# EAGLE library part 643250100408 (library WR-CIRC)
WR-CIRCM12 Screw Mating Panel Connector PCB Metal M16 Characteristics Several panel cuts available IP68 rated connectors Can work in harsh environments Applications Automation industry & control systems Sensors' connectivity Building automation Renewable energies General Information Durability 100 Mating cycles Operating Temperature -40 °C up to +90 °C Gender Male Electrical Properties IR 2 A; 5 A Working Voltage 30 V; 60 V; 250 V Withstanding Voltage 650 V; 1000 V; 1400 V RISO 100 MΩ Material Properties Insulator Material PA66 Insulator Flammability Rating UL94 V-0 Insulator Color Black Contact Material Copper Alloy Contact Plating Gold <https://www.we-online.com/components/media/o850116v209%20Multi-WR-CIRCM12-643250100404.jpg> Details see: www.we-online.com/components/products/WR-CIRCM12_PANEL_CONNECTOR_PCB_METAL_M16 <www.we-online.com/catalog/WR-CIRCM12_PANEL_CONNECTOR_PCB_METAL_M16/?utm_source=eagle_model&utm_medium=description_link&utm_campaign=eisos_eagle> Created by Ella Wu 2025-06-10 2025 (C) Würth Elektronik
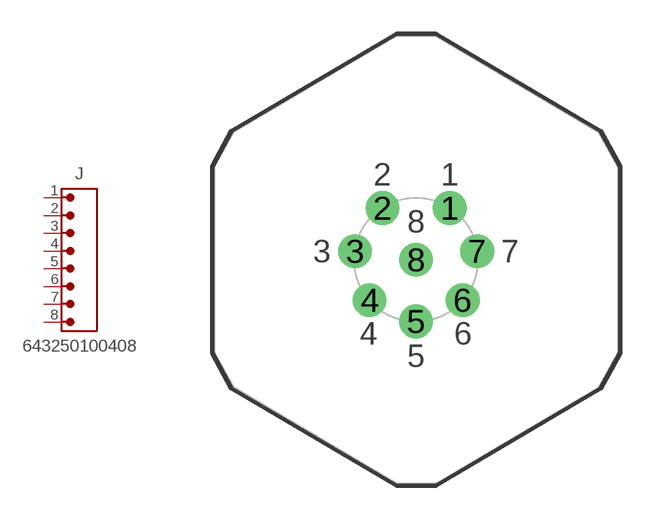
[diagram p14: symbol with the pads of 643250100408; footprint 643250100408]

Designator prefix J

## 643250100408 (DATASHEET-URL: https://www.we-online.com/redexpert/spec/643250100408?ae; GENDER: Male; MOUNT: THT; PART-NUMBER: 643250100408; POLARITY: 8; RATED-CURRENT: 2A; VALUE: 643250100408; WITHSTANDING-VOLTAGE: 650V; WORKING-VOLTAGE: 30V)  [643250100408]
1  1  pas
2  2  pas
3  3  pas
4  4  pas
5  5  pas
6  6  pas
7  7  pas
8  8  pas

## Footprint 643250100408 (pad centres in mm)
WR-CIRCM12 Screw Mating Panel Connector PCB Metal M16 THT, 8pins
drill 1: 1 1.498,2.306; 2 -1.498,2.306; 3 -2.723,0.383; 4 -2.075,-1.804; 5 0,-2.75; 6 2.075,-1.804; 7 2.723,0.383; 8 0,0